# Altium footprint library Connector_JST.PcbLib: 558 footprints (part 20 of 35)
Each footprint in its own frame and in the unit in brackets; x right, y up, seen from the top. Pads: shape width x height; smd on the part's side, far side on the other; paste and mask are expansions set on the pad; w line width, h text height; cw(c..) or ccw(c..) is an arc to the next point about the centre after c.
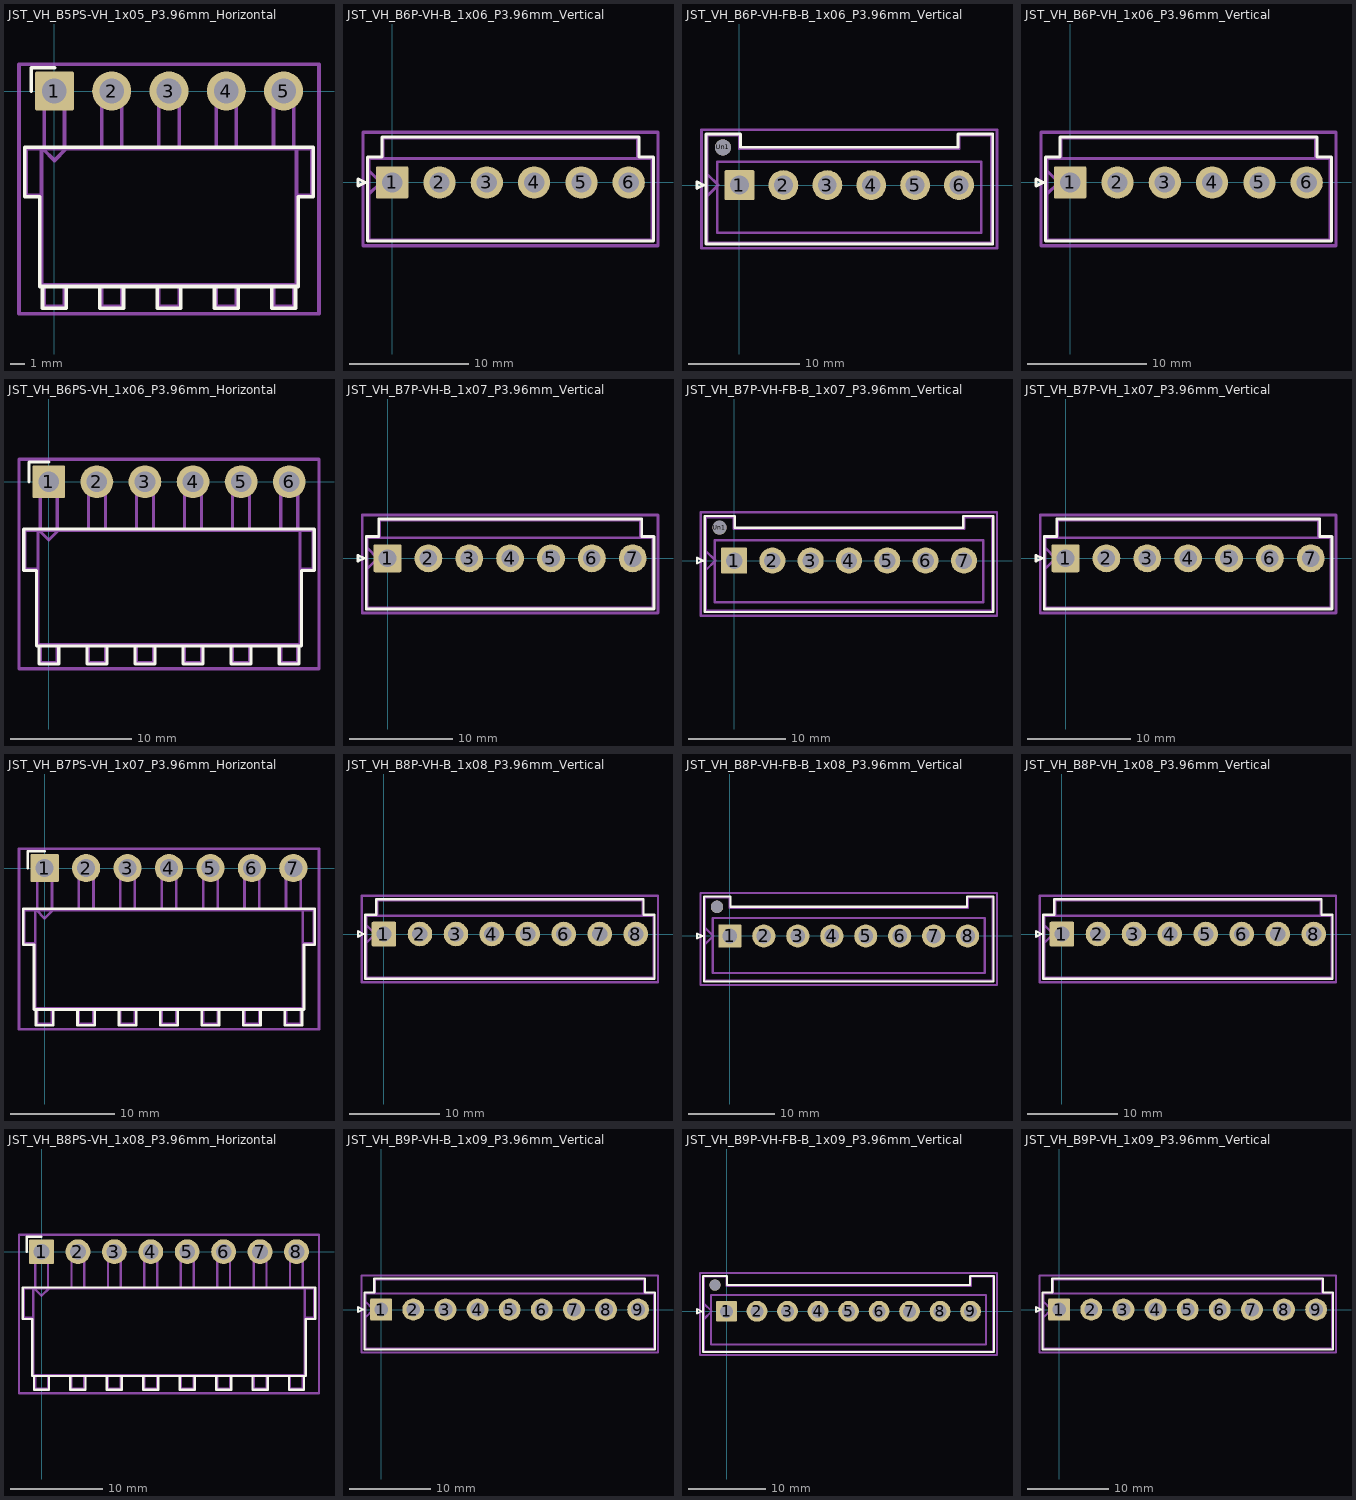
[diagram p19: the footprints below, top view; thin cyan lines are the x and y axes]

## JST_VH_B5PS-VH_1x05_P3.96mm_Horizontal [mm] "JST_VH_B5PS-VH_1x05_P3.96mm_Horizontal"
pads (5):
  rrect9% 2.7x2.7 hole 1.7: 1(0,0)
  round 2.7 hole 1.7: 2(3.96,0) 3(7.92,0) 4(11.88,0) 5(15.84,0)
F.SilkS:
  lines w0.254: -1.61,0 -1.61,1.61 0,1.61 ; -0.82,-13.51 -0.82,-15.01 0.82,-15.01 0.82,-13.51 ; 3.14,-13.51 3.14,-15.01 4.78,-15.01 4.78,-13.51 ; 7.1,-13.51 7.1,-15.01 8.74,-15.01 8.74,-13.51 ; 11.06,-13.51 11.06,-15.01 12.7,-15.01 12.7,-13.51 ; 15.02,-13.51 15.02,-15.01 16.66,-15.01 16.66,-13.51 ; -2.06,-7.31 -2.06,-3.89 17.9,-3.89 17.9,-7.31 16.85,-7.31 16.85,-13.51 -1.01,-13.51 -1.01,-7.31 -2.06,-7.31
Top Component Center:
  lines w0.127: -0.127,0 0.127,0 ; 0,-0.127 0,0.127
Top Assembly:
  lines w0.254: -0.9,-7.2 -1.95,-7.2 -1.95,-4 -0.9,-4 ; -0.8,-4 0,-4.8 0.8,-4 ; -0.7,-13.4 -0.7,-14.9 0.7,-14.9 0.7,-13.4 ; -0.7,-4 -0.7,0 0.7,0 0.7,-4 ; 3.26,-13.4 3.26,-14.9 4.66,-14.9 4.66,-13.4 ; 3.26,-4 3.26,0 4.66,0 4.66,-4 ; 7.22,-13.4 7.22,-14.9 8.62,-14.9 8.62,-13.4 ; 7.22,-4 7.22,0 8.62,0 8.62,-4 ; 11.18,-13.4 11.18,-14.9 12.58,-14.9 12.58,-13.4 ; 11.18,-4 11.18,0 12.58,0 12.58,-4 ; 15.14,-13.4 15.14,-14.9 16.54,-14.9 16.54,-13.4 ; 15.14,-4 15.14,0 16.54,0 16.54,-4 ; 16.74,-7.2 17.79,-7.2 17.79,-4 16.74,-4 ; -0.9,-4 -0.9,-13.4 16.74,-13.4 16.74,-4 ; -0.9,-4 16.74,-4
Top Courtyard:
  lines w0.254: -2.45,-15.4 -2.45,1.85 18.29,1.85 18.29,-15.4 -2.45,-15.4
Top Designator:
  text ".Designator" at 4.571,-9.361 h1.52

## JST_VH_B6P-VH-B_1x06_P3.96mm_Vertical [mm] "JST_VH_B6P-VH-B_1x06_P3.96mm_Vertical"
pads (6):
  rrect9% 2.7x2.7 hole 1.7: 1(0,0)
  round 2.7 hole 1.7: 2(3.96,0) 3(7.92,0) 4(11.88,0) 5(15.84,0) 6(19.8,0)
F.SilkS:
  lines w0.254: -2.86,-0.3 -2.26,0 -2.86,0.3 -2.86,-0.3 ; -2.06,-4.91 21.86,-4.91 21.86,2.11 20.66,2.11 20.66,3.81 -0.86,3.81 -0.86,2.11 -2.06,2.11 -2.06,-4.91
Top Component Center:
  lines w0.127: -0.127,0 0.127,0 ; 0,-0.127 0,0.127
Top Assembly:
  lines w0.254: -1.95,-1 -0.95,0 -1.95,1 ; -0.75,2 -0.75,3.7 20.55,3.7 20.55,2 ; -1.95,-4.8 21.75,-4.8 21.75,2 -1.95,2 -1.95,-4.8
Top Courtyard:
  lines w0.254: -2.45,-5.3 22.25,-5.3 22.25,4.2 -2.45,4.2 -2.45,-5.3
Top Designator:
  text ".Designator" at 6.73,-3.138 h1.52

## JST_VH_B6P-VH-FB-B_1x06_P3.96mm_Vertical [mm] "JST_VH_B6P-VH-FB-B_1x06_P3.96mm_Vertical"
pads (7):
  rrect9% 2.7x2.7 hole 1.7: 1(0,0)
  round 2.7 hole 1.7: 2(3.96,0) 3(7.92,0) 4(11.88,0) 5(15.84,0) 6(19.8,0)
  round 1.45 hole 1.45: Un1(-1.5,3.4)
F.SilkS:
  lines w0.254: -3.83,-0.3 -3.83,0.3 -3.23,0 -3.83,-0.3 ; -3.03,-5.31 -3.03,4.61 0.09,4.61 0.09,3.41 19.71,3.41 19.71,4.61 22.83,4.61 22.83,-5.31 -3.03,-5.31
Top Component Center:
  lines w0.127: -0.127,0 0.127,0 ; 0,-0.127 0,0.127
Top Assembly:
  lines w0.254: -2.92,-1 -1.92,0 -2.92,1 ; -2.92,-5.2 -2.92,4.5 -0.02,4.5 -0.02,3.3 19.82,3.3 19.82,4.5 22.72,4.5 22.72,-5.2 -2.92,-5.2 ; -2,-4.3 -2,2.1 21.8,2.1 21.8,-4.3 -2,-4.3
Top Courtyard:
  lines w0.254: -3.42,-5.7 -3.42,5 23.22,5 23.22,-5.7 -3.42,-5.7
Top Designator:
  text ".Designator" at 6.476,-3.011 h1.52

## JST_VH_B6P-VH_1x06_P3.96mm_Vertical [mm] "JST_VH_B6P-VH_1x06_P3.96mm_Vertical"
pads (6):
  rrect9% 2.7x2.7 hole 1.7: 1(0,0)
  round 2.7 hole 1.7: 2(3.96,0) 3(7.92,0) 4(11.88,0) 5(15.84,0) 6(19.8,0)
F.SilkS:
  lines w0.254: -2.86,-0.3 -2.26,0 -2.86,0.3 -2.86,-0.3 ; -2.06,-4.91 21.86,-4.91 21.86,2.11 20.66,2.11 20.66,3.81 -0.86,3.81 -0.86,2.11 -2.06,2.11 -2.06,-4.91
Top Component Center:
  lines w0.127: -0.127,0 0.127,0 ; 0,-0.127 0,0.127
Top Assembly:
  lines w0.254: -1.95,-1 -0.95,0 -1.95,1 ; -0.75,2 -0.75,3.7 20.55,3.7 20.55,2 ; -1.95,-4.8 21.75,-4.8 21.75,2 -1.95,2 -1.95,-4.8
Top Courtyard:
  lines w0.254: -2.45,-5.3 22.25,-5.3 22.25,4.2 -2.45,4.2 -2.45,-5.3
Top Designator:
  text ".Designator" at 6.222,-2.884 h1.52

## JST_VH_B6PS-VH_1x06_P3.96mm_Horizontal [mm] "JST_VH_B6PS-VH_1x06_P3.96mm_Horizontal"
pads (6):
  rrect9% 2.7x2.7 hole 1.7: 1(0,0)
  round 2.7 hole 1.7: 2(3.96,0) 3(7.92,0) 4(11.88,0) 5(15.84,0) 6(19.8,0)
F.SilkS:
  lines w0.254: -1.61,0 -1.61,1.61 0,1.61 ; -0.82,-13.51 -0.82,-15.01 0.82,-15.01 0.82,-13.51 ; 3.14,-13.51 3.14,-15.01 4.78,-15.01 4.78,-13.51 ; 7.1,-13.51 7.1,-15.01 8.74,-15.01 8.74,-13.51 ; 11.06,-13.51 11.06,-15.01 12.7,-15.01 12.7,-13.51 ; 15.02,-13.51 15.02,-15.01 16.66,-15.01 16.66,-13.51 ; 18.98,-13.51 18.98,-15.01 20.62,-15.01 20.62,-13.51 ; -2.06,-7.31 -2.06,-3.89 21.86,-3.89 21.86,-7.31 20.81,-7.31 20.81,-13.51 -1.01,-13.51 -1.01,-7.31 -2.06,-7.31
Top Component Center:
  lines w0.127: -0.127,0 0.127,0 ; 0,-0.127 0,0.127
Top Assembly:
  lines w0.254: -0.9,-7.2 -1.95,-7.2 -1.95,-4 -0.9,-4 ; -0.8,-4 0,-4.8 0.8,-4 ; -0.7,-13.4 -0.7,-14.9 0.7,-14.9 0.7,-13.4 ; -0.7,-4 -0.7,0 0.7,0 0.7,-4 ; 3.26,-13.4 3.26,-14.9 4.66,-14.9 4.66,-13.4 ; 3.26,-4 3.26,0 4.66,0 4.66,-4 ; 7.22,-13.4 7.22,-14.9 8.62,-14.9 8.62,-13.4 ; 7.22,-4 7.22,0 8.62,0 8.62,-4 ; 11.18,-13.4 11.18,-14.9 12.58,-14.9 12.58,-13.4 ; 11.18,-4 11.18,0 12.58,0 12.58,-4 ; 15.14,-13.4 15.14,-14.9 16.54,-14.9 16.54,-13.4 ; 15.14,-4 15.14,0 16.54,0 16.54,-4 ; 19.1,-13.4 19.1,-14.9 20.5,-14.9 20.5,-13.4 ; 19.1,-4 19.1,0 20.5,0 20.5,-4 ; 20.7,-7.2 21.75,-7.2 21.75,-4 20.7,-4 ; -0.9,-4 -0.9,-13.4 20.7,-13.4 20.7,-4 ; -0.9,-4 20.7,-4
Top Courtyard:
  lines w0.254: -2.45,-15.4 -2.45,1.85 22.25,1.85 22.25,-15.4 -2.45,-15.4
Top Designator:
  text ".Designator" at 6.73,-8.853 h1.52

## JST_VH_B7P-VH-B_1x07_P3.96mm_Vertical [mm] "JST_VH_B7P-VH-B_1x07_P3.96mm_Vertical"
pads (7):
  rrect9% 2.7x2.7 hole 1.7: 1(0,0)
  round 2.7 hole 1.7: 2(3.96,0) 3(7.92,0) 4(11.88,0) 5(15.84,0) 6(19.8,0) 7(23.76,0)
F.SilkS:
  lines w0.254: -2.86,-0.3 -2.26,0 -2.86,0.3 -2.86,-0.3 ; -2.06,-4.91 25.82,-4.91 25.82,2.11 24.62,2.11 24.62,3.81 -0.86,3.81 -0.86,2.11 -2.06,2.11 -2.06,-4.91
Top Component Center:
  lines w0.127: -0.127,0 0.127,0 ; 0,-0.127 0,0.127
Top Assembly:
  lines w0.254: -1.95,-1 -0.95,0 -1.95,1 ; -0.75,2 -0.75,3.7 24.51,3.7 24.51,2 ; -1.95,-4.8 25.71,-4.8 25.71,2 -1.95,2 -1.95,-4.8
Top Courtyard:
  lines w0.254: -2.45,-5.3 26.21,-5.3 26.21,4.2 -2.45,4.2 -2.45,-5.3
Top Designator:
  text ".Designator" at 8.635,-3.138 h1.52

## JST_VH_B7P-VH-FB-B_1x07_P3.96mm_Vertical [mm] "JST_VH_B7P-VH-FB-B_1x07_P3.96mm_Vertical"
pads (8):
  rrect9% 2.7x2.7 hole 1.7: 1(0,0)
  round 2.7 hole 1.7: 2(3.96,0) 3(7.92,0) 4(11.88,0) 5(15.84,0) 6(19.8,0) 7(23.76,0)
  round 1.45 hole 1.45: Un1(-1.5,3.4)
F.SilkS:
  lines w0.254: -3.83,-0.3 -3.23,0 -3.83,0.3 -3.83,-0.3 ; -3.03,-5.31 26.79,-5.31 26.79,4.61 23.67,4.61 23.67,3.41 0.09,3.41 0.09,4.61 -3.03,4.61 -3.03,-5.31
Top Component Center:
  lines w0.127: -0.127,0 0.127,0 ; 0,-0.127 0,0.127
Top Assembly:
  lines w0.254: -2.92,-1 -1.92,0 -2.92,1 ; -2.92,-5.2 26.68,-5.2 26.68,4.5 23.78,4.5 23.78,3.3 -0.02,3.3 -0.02,4.5 -2.92,4.5 -2.92,-5.2 ; -2,-4.3 25.76,-4.3 25.76,2.1 -2,2.1 -2,-4.3
Top Courtyard:
  lines w0.254: -3.42,-5.7 27.18,-5.7 27.18,5 -3.42,5 -3.42,-5.7
Top Designator:
  text ".Designator" at 8.508,-2.884 h1.52

## JST_VH_B7P-VH_1x07_P3.96mm_Vertical [mm] "JST_VH_B7P-VH_1x07_P3.96mm_Vertical"
pads (7):
  rrect9% 2.7x2.7 hole 1.7: 1(0,0)
  round 2.7 hole 1.7: 2(3.96,0) 3(7.92,0) 4(11.88,0) 5(15.84,0) 6(19.8,0) 7(23.76,0)
F.SilkS:
  lines w0.254: -2.86,-0.3 -2.26,0 -2.86,0.3 -2.86,-0.3 ; -2.06,-4.91 25.82,-4.91 25.82,2.11 24.62,2.11 24.62,3.81 -0.86,3.81 -0.86,2.11 -2.06,2.11 -2.06,-4.91
Top Component Center:
  lines w0.127: -0.127,0 0.127,0 ; 0,-0.127 0,0.127
Top Assembly:
  lines w0.254: -1.95,-1 -0.95,0 -1.95,1 ; -0.75,2 -0.75,3.7 24.51,3.7 24.51,2 ; -1.95,-4.8 25.71,-4.8 25.71,2 -1.95,2 -1.95,-4.8
Top Courtyard:
  lines w0.254: -2.45,-5.3 26.21,-5.3 26.21,4.2 -2.45,4.2 -2.45,-5.3
Top Designator:
  text ".Designator" at 8.889,-3.519 h1.52

## JST_VH_B7PS-VH_1x07_P3.96mm_Horizontal [mm] "JST_VH_B7PS-VH_1x07_P3.96mm_Horizontal"
pads (7):
  rrect9% 2.7x2.7 hole 1.7: 1(0,0)
  round 2.7 hole 1.7: 2(3.96,0) 3(7.92,0) 4(11.88,0) 5(15.84,0) 6(19.8,0) 7(23.76,0)
F.SilkS:
  lines w0.254: -1.61,0 -1.61,1.61 0,1.61 ; -0.82,-13.51 -0.82,-15.01 0.82,-15.01 0.82,-13.51 ; 3.14,-13.51 3.14,-15.01 4.78,-15.01 4.78,-13.51 ; 7.1,-13.51 7.1,-15.01 8.74,-15.01 8.74,-13.51 ; 11.06,-13.51 11.06,-15.01 12.7,-15.01 12.7,-13.51 ; 15.02,-13.51 15.02,-15.01 16.66,-15.01 16.66,-13.51 ; 18.98,-13.51 18.98,-15.01 20.62,-15.01 20.62,-13.51 ; 22.94,-13.51 22.94,-15.01 24.58,-15.01 24.58,-13.51 ; -2.06,-7.31 -2.06,-3.89 25.82,-3.89 25.82,-7.31 24.77,-7.31 24.77,-13.51 -1.01,-13.51 -1.01,-7.31 -2.06,-7.31
Top Component Center:
  lines w0.127: -0.127,0 0.127,0 ; 0,-0.127 0,0.127
Top Assembly:
  lines w0.254: -0.9,-7.2 -1.95,-7.2 -1.95,-4 -0.9,-4 ; -0.8,-4 0,-4.8 0.8,-4 ; -0.7,-13.4 -0.7,-14.9 0.7,-14.9 0.7,-13.4 ; -0.7,-4 -0.7,0 0.7,0 0.7,-4 ; 3.26,-13.4 3.26,-14.9 4.66,-14.9 4.66,-13.4 ; 3.26,-4 3.26,0 4.66,0 4.66,-4 ; 7.22,-13.4 7.22,-14.9 8.62,-14.9 8.62,-13.4 ; 7.22,-4 7.22,0 8.62,0 8.62,-4 ; 11.18,-13.4 11.18,-14.9 12.58,-14.9 12.58,-13.4 ; 11.18,-4 11.18,0 12.58,0 12.58,-4 ; 15.14,-13.4 15.14,-14.9 16.54,-14.9 16.54,-13.4 ; 15.14,-4 15.14,0 16.54,0 16.54,-4 ; 19.1,-13.4 19.1,-14.9 20.5,-14.9 20.5,-13.4 ; 19.1,-4 19.1,0 20.5,0 20.5,-4 ; 23.06,-13.4 23.06,-14.9 24.46,-14.9 24.46,-13.4 ; 23.06,-4 23.06,0 24.46,0 24.46,-4 ; 24.66,-7.2 25.71,-7.2 25.71,-4 24.66,-4 ; -0.9,-4 -0.9,-13.4 24.66,-13.4 24.66,-4 ; -0.9,-4 24.66,-4
Top Courtyard:
  lines w0.254: -2.45,-15.4 -2.45,1.85 26.21,1.85 26.21,-15.4 -2.45,-15.4
Top Designator:
  text ".Designator" at 8.508,-9.107 h1.52

## JST_VH_B8P-VH-B_1x08_P3.96mm_Vertical [mm] "JST_VH_B8P-VH-B_1x08_P3.96mm_Vertical"
pads (8):
  rrect9% 2.7x2.7 hole 1.7: 1(0,0)
  round 2.7 hole 1.7: 2(3.96,0) 3(7.92,0) 4(11.88,0) 5(15.84,0) 6(19.8,0) 7(23.76,0) 8(27.72,0)
F.SilkS:
  lines w0.254: -2.86,-0.3 -2.26,0 -2.86,0.3 -2.86,-0.3 ; -2.06,-4.91 29.78,-4.91 29.78,2.11 28.58,2.11 28.58,3.81 -0.86,3.81 -0.86,2.11 -2.06,2.11 -2.06,-4.91
Top Component Center:
  lines w0.127: -0.127,0 0.127,0 ; 0,-0.127 0,0.127
Top Assembly:
  lines w0.254: -1.95,-1 -0.95,0 -1.95,1 ; -0.75,2 -0.75,3.7 28.47,3.7 28.47,2 ; -1.95,-4.8 29.67,-4.8 29.67,2 -1.95,2 -1.95,-4.8
Top Courtyard:
  lines w0.254: -2.45,-5.3 30.17,-5.3 30.17,4.2 -2.45,4.2 -2.45,-5.3
Top Designator:
  text ".Designator" at 10.413,-3.138 h1.52

## JST_VH_B8P-VH-FB-B_1x08_P3.96mm_Vertical [mm] "JST_VH_B8P-VH-FB-B_1x08_P3.96mm_Vertical"
pads (9):
  rrect9% 2.7x2.7 hole 1.7: 1(0,0)
  round 2.7 hole 1.7: 2(3.96,0) 3(7.92,0) 4(11.88,0) 5(15.84,0) 6(19.8,0) 7(23.76,0) 8(27.72,0)
  round 1.45 hole 1.45: Un1(-1.5,3.4)
F.SilkS:
  lines w0.254: -3.83,-0.3 -3.83,0.3 -3.23,0 -3.83,-0.3 ; -3.03,-5.31 -3.03,4.61 0.09,4.61 0.09,3.41 27.63,3.41 27.63,4.61 30.75,4.61 30.75,-5.31 -3.03,-5.31
Top Component Center:
  lines w0.127: -0.127,0 0.127,0 ; 0,-0.127 0,0.127
Top Assembly:
  lines w0.254: -2.92,-1 -1.92,0 -2.92,1 ; -2.92,-5.2 -2.92,4.5 -0.02,4.5 -0.02,3.3 27.74,3.3 27.74,4.5 30.64,4.5 30.64,-5.2 -2.92,-5.2 ; -2,-4.3 -2,2.1 29.72,2.1 29.72,-4.3 -2,-4.3
Top Courtyard:
  lines w0.254: -3.43,-5.7 -3.43,5 31.14,5 31.14,-5.7 -3.43,-5.7
Top Designator:
  text ".Designator" at 10.159,-3.011 h1.52

## JST_VH_B8P-VH_1x08_P3.96mm_Vertical [mm] "JST_VH_B8P-VH_1x08_P3.96mm_Vertical"
pads (8):
  rrect9% 2.7x2.7 hole 1.7: 1(0,0)
  round 2.7 hole 1.7: 2(3.96,0) 3(7.92,0) 4(11.88,0) 5(15.84,0) 6(19.8,0) 7(23.76,0) 8(27.72,0)
F.SilkS:
  lines w0.254: -2.86,-0.3 -2.26,0 -2.86,0.3 -2.86,-0.3 ; -2.06,-4.91 29.78,-4.91 29.78,2.11 28.58,2.11 28.58,3.81 -0.86,3.81 -0.86,2.11 -2.06,2.11 -2.06,-4.91
Top Component Center:
  lines w0.127: -0.127,0 0.127,0 ; 0,-0.127 0,0.127
Top Assembly:
  lines w0.254: -1.95,-1 -0.95,0 -1.95,1 ; -0.75,2 -0.75,3.7 28.47,3.7 28.47,2 ; -1.95,-4.8 29.67,-4.8 29.67,2 -1.95,2 -1.95,-4.8
Top Courtyard:
  lines w0.254: -2.45,-5.3 30.17,-5.3 30.17,4.2 -2.45,4.2 -2.45,-5.3
Top Designator:
  text ".Designator" at 10.032,-3.392 h1.52

## JST_VH_B8PS-VH_1x08_P3.96mm_Horizontal [mm] "JST_VH_B8PS-VH_1x08_P3.96mm_Horizontal"
pads (8):
  rrect9% 2.7x2.7 hole 1.7: 1(0,0)
  round 2.7 hole 1.7: 2(3.96,0) 3(7.92,0) 4(11.88,0) 5(15.84,0) 6(19.8,0) 7(23.76,0) 8(27.72,0)
F.SilkS:
  lines w0.254: -1.61,0 -1.61,1.61 0,1.61 ; -0.82,-13.51 -0.82,-15.01 0.82,-15.01 0.82,-13.51 ; 3.14,-13.51 3.14,-15.01 4.78,-15.01 4.78,-13.51 ; 7.1,-13.51 7.1,-15.01 8.74,-15.01 8.74,-13.51 ; 11.06,-13.51 11.06,-15.01 12.7,-15.01 12.7,-13.51 ; 15.02,-13.51 15.02,-15.01 16.66,-15.01 16.66,-13.51 ; 18.98,-13.51 18.98,-15.01 20.62,-15.01 20.62,-13.51 ; 22.94,-13.51 22.94,-15.01 24.58,-15.01 24.58,-13.51 ; 26.9,-13.51 26.9,-15.01 28.54,-15.01 28.54,-13.51 ; -2.06,-7.31 -2.06,-3.89 29.78,-3.89 29.78,-7.31 28.73,-7.31 28.73,-13.51 -1.01,-13.51 -1.01,-7.31 -2.06,-7.31
Top Component Center:
  lines w0.127: -0.127,0 0.127,0 ; 0,-0.127 0,0.127
Top Assembly:
  lines w0.254: -0.9,-7.2 -1.95,-7.2 -1.95,-4 -0.9,-4 ; -0.8,-4 0,-4.8 0.8,-4 ; -0.7,-13.4 -0.7,-14.9 0.7,-14.9 0.7,-13.4 ; -0.7,-4 -0.7,0 0.7,0 0.7,-4 ; 3.26,-13.4 3.26,-14.9 4.66,-14.9 4.66,-13.4 ; 3.26,-4 3.26,0 4.66,0 4.66,-4 ; 7.22,-13.4 7.22,-14.9 8.62,-14.9 8.62,-13.4 ; 7.22,-4 7.22,0 8.62,0 8.62,-4 ; 11.18,-13.4 11.18,-14.9 12.58,-14.9 12.58,-13.4 ; 11.18,-4 11.18,0 12.58,0 12.58,-4 ; 15.14,-13.4 15.14,-14.9 16.54,-14.9 16.54,-13.4 ; 15.14,-4 15.14,0 16.54,0 16.54,-4 ; 19.1,-13.4 19.1,-14.9 20.5,-14.9 20.5,-13.4 ; 19.1,-4 19.1,0 20.5,0 20.5,-4 ; 23.06,-13.4 23.06,-14.9 24.46,-14.9 24.46,-13.4 ; 23.06,-4 23.06,0 24.46,0 24.46,-4 ; 27.02,-13.4 27.02,-14.9 28.42,-14.9 28.42,-13.4 ; 27.02,-4 27.02,0 28.42,0 28.42,-4 ; 28.62,-7.2 29.67,-7.2 29.67,-4 28.62,-4 ; -0.9,-4 -0.9,-13.4 28.62,-13.4 28.62,-4 ; -0.9,-4 28.62,-4
Top Courtyard:
  lines w0.254: -2.45,-15.4 -2.45,1.85 30.17,1.85 30.17,-15.4 -2.45,-15.4
Top Designator:
  text ".Designator" at 11.048,-8.98 h1.52

## JST_VH_B9P-VH-B_1x09_P3.96mm_Vertical [mm] "JST_VH_B9P-VH-B_1x09_P3.96mm_Vertical"
pads (9):
  rrect9% 2.7x2.7 hole 1.7: 1(0,0)
  round 2.7 hole 1.7: 2(3.96,0) 3(7.92,0) 4(11.88,0) 5(15.84,0) 6(19.8,0) 7(23.76,0) 8(27.72,0) 9(31.68,0)
F.SilkS:
  lines w0.254: -2.86,-0.3 -2.26,0 -2.86,0.3 -2.86,-0.3 ; -2.06,-4.91 33.74,-4.91 33.74,2.11 32.54,2.11 32.54,3.81 -0.86,3.81 -0.86,2.11 -2.06,2.11 -2.06,-4.91
Top Component Center:
  lines w0.127: -0.127,0 0.127,0 ; 0,-0.127 0,0.127
Top Assembly:
  lines w0.254: -1.95,-1 -0.95,0 -1.95,1 ; -0.75,2 -0.75,3.7 32.43,3.7 32.43,2 ; -1.95,-4.8 33.63,-4.8 33.63,2 -1.95,2 -1.95,-4.8
Top Courtyard:
  lines w0.254: -2.45,-5.3 34.13,-5.3 34.13,4.2 -2.45,4.2 -2.45,-5.3
Top Designator:
  text ".Designator" at 11.429,-3.646 h1.52

## JST_VH_B9P-VH-FB-B_1x09_P3.96mm_Vertical [mm] "JST_VH_B9P-VH-FB-B_1x09_P3.96mm_Vertical"
pads (10):
  rrect9% 2.7x2.7 hole 1.7: 1(0,0)
  round 2.7 hole 1.7: 2(3.96,0) 3(7.92,0) 4(11.88,0) 5(15.84,0) 6(19.8,0) 7(23.76,0) 8(27.72,0) 9(31.68,0)
  round 1.45 hole 1.45: Un1(-1.5,3.4)
F.SilkS:
  lines w0.254: -3.83,-0.3 -3.83,0.3 -3.23,0 -3.83,-0.3 ; -3.03,-5.31 -3.03,4.61 0.09,4.61 0.09,3.41 31.59,3.41 31.59,4.61 34.71,4.61 34.71,-5.31 -3.03,-5.31
Top Component Center:
  lines w0.127: -0.127,0 0.127,0 ; 0,-0.127 0,0.127
Top Assembly:
  lines w0.254: -2.92,-1 -1.92,0 -2.92,1 ; -2.92,-5.2 -2.92,4.5 -0.02,4.5 -0.02,3.3 31.7,3.3 31.7,4.5 34.6,4.5 34.6,-5.2 -2.92,-5.2 ; -2,-4.3 -2,2.1 33.68,2.1 33.68,-4.3 -2,-4.3
Top Courtyard:
  lines w0.254: -3.42,-5.7 -3.42,5 35.1,5 35.1,-5.7 -3.42,-5.7
Top Designator:
  text ".Designator" at 12.191,-2.884 h1.52

## JST_VH_B9P-VH_1x09_P3.96mm_Vertical [mm] "JST_VH_B9P-VH_1x09_P3.96mm_Vertical"
pads (9):
  rrect9% 2.7x2.7 hole 1.7: 1(0,0)
  round 2.7 hole 1.7: 2(3.96,0) 3(7.92,0) 4(11.88,0) 5(15.84,0) 6(19.8,0) 7(23.76,0) 8(27.72,0) 9(31.68,0)
F.SilkS:
  lines w0.254: -2.86,-0.3 -2.86,0.3 -2.26,0 -2.86,-0.3 ; -2.06,-4.91 -2.06,2.11 -0.86,2.11 -0.86,3.81 32.54,3.81 32.54,2.11 33.74,2.11 33.74,-4.91 -2.06,-4.91
Top Component Center:
  lines w0.127: -0.127,0 0.127,0 ; 0,-0.127 0,0.127
Top Assembly:
  lines w0.254: -1.95,-1 -0.95,0 -1.95,1 ; -0.75,2 -0.75,3.7 32.43,3.7 32.43,2 ; -1.95,-4.8 -1.95,2 33.63,2 33.63,-4.8 -1.95,-4.8
Top Courtyard:
  lines w0.254: -2.45,-5.3 -2.45,4.2 34.13,4.2 34.13,-5.3 -2.45,-5.3
Top Designator:
  text ".Designator" at 12.318,-3.392 h1.52